# Altium footprint library CONN_TBLOCK_5P08.PcbLib: 72 footprints (part 5 of 5)
Each footprint in its own frame and in the unit in brackets; x right, y up, seen from the top. Pads: shape width x height; smd on the part's side, far side on the other; paste and mask are expansions set on the pad; w line width, h text height; cw(c..) or ccw(c..) is an arc to the next point about the centre after c.
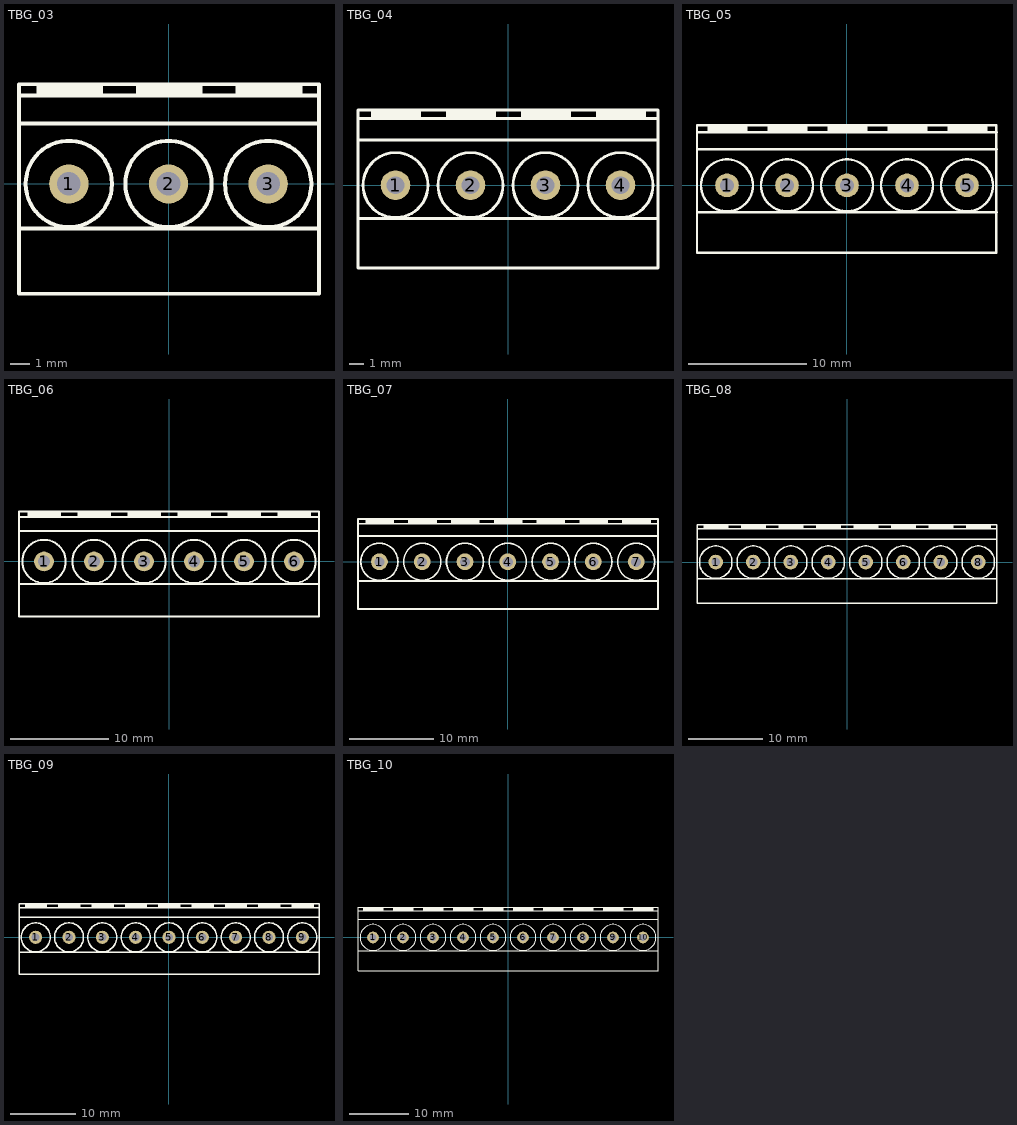
[diagram p4: the footprints below, top view; thin cyan lines are the x and y axes]

## TBG_03 [mm] "Terminal Block Green"
pads (3):
  round 2 / inner round 2 / far side oval 2.4x3 hole 1.2: 1(-5.08,0) 2(0,0) 3(5.08,0)
Top Overlay:
  circle w0.2: c-5.08,0 r2.2
  circle w0.2: c0,0 r2.2
  circle w0.2: c5.08,0 r2.2
  rectangle: 3.42,4.5 6.82,5.08
  rectangle: -1.66,4.5 1.74,5.08
  rectangle: -6.74,4.5 -3.34,5.08
  lines w0.2: -7.62,-2.27 7.6,-2.27 ; -7.62,3.07 7.6,3.07 ; -7.62,4.5 7.6,4.5 ; -7.62,-5.6 -7.62,5.08 7.671,5.08 7.671,-5.6 -7.62,-5.6
3D body "User Library-klema-5mm-3pin.step": height 14.1, standoff -3.9, extent -7.5,-5.5 7.5,5

## TBG_04 [mm] "Terminal Block Green"
pads (4):
  round 2 / inner round 2 / far side oval 2.4x3 hole 1.2: 1(-7.62,0) 2(-2.54,0) 3(2.54,0) 4(7.62,0)
Top Overlay:
  circle w0.2: c-7.62,0 r2.2
  circle w0.2: c-2.54,0 r2.2
  circle w0.2: c2.54,0 r2.2
  circle w0.2: c7.62,0 r2.2
  rectangle: -9.28,4.5 -5.88,5.08
  rectangle: -4.2,4.5 -0.8,5.08
  rectangle: 0.88,4.5 4.28,5.08
  rectangle: 5.96,4.5 9.36,5.08
  lines w0.2: -10.16,-2.27 10.16,-2.27 ; -10.16,3.07 10.16,3.07 ; -10.16,4.5 10.16,4.5 ; -10.16,-5.6 -10.16,5.08 10.16,5.08 10.16,-5.6 -10.16,-5.6
3D body "User Library-klema-5mm-2pin.step": height 14, standoff -4, extent -10.08,-5.5 -0.08,5
3D body "User Library-klema-5mm-2pin.step": height 14, standoff -4, extent 0.08,-5.5 10.08,5

## TBG_05 [mm] "Terminal Block Green"
pads (5):
  round 2 / inner round 2 / far side oval 2.4x3 hole 1.2: 1(-10.16,0) 2(-5.08,0) 3(0,0) 4(5.08,0) 5(10.16,0)
Top Overlay:
  circle w0.2: c-10.16,0 r2.2
  circle w0.2: c-5.08,0 r2.2
  circle w0.2: c0,0 r2.2
  circle w0.2: c5.08,0 r2.2
  circle w0.2: c10.16,0 r2.2
  rectangle: -11.82,4.5 -8.42,5.08
  rectangle: -6.74,4.5 -3.34,5.08
  rectangle: -1.66,4.5 1.74,5.08
  rectangle: 3.42,4.5 6.82,5.08
  rectangle: 8.5,4.5 11.9,5.08
  lines w0.2: -12.7,-2.27 12.7,-2.27 ; -12.7,3.07 12.7,3.07 ; -12.7,4.5 12.7,4.5 ; -12.7,-5.7 -12.7,5.08 12.649,5.08 12.649,-5.7 -12.7,-5.7
3D body "User Library-klema-5mm-3pin.step": height 14.1, standoff -3.9, extent -12.58,-5.5 2.42,5
3D body "User Library-klema-5mm-2pin.step": height 14, standoff -4, extent 2.62,-5.5 12.62,5

## TBG_06 [mm] "Terminal Block Green"
pads (6):
  round 2 / inner round 2 / far side oval 2.4x3 hole 1.2: 1(-12.7,0) 2(-7.62,0) 3(-2.54,0) 4(2.54,0) 5(7.62,0) 6(12.7,0)
Top Overlay:
  circle w0.2: c-12.7,0 r2.2
  circle w0.2: c-7.62,0 r2.2
  circle w0.2: c-2.54,0 r2.2
  circle w0.2: c2.54,0 r2.2
  circle w0.2: c7.62,0 r2.2
  circle w0.2: c12.7,0 r2.2
  rectangle: -14.36,4.5 -10.96,5.08
  rectangle: -9.28,4.5 -5.88,5.08
  rectangle: -4.2,4.5 -0.8,5.08
  rectangle: 0.88,4.5 4.28,5.08
  rectangle: 5.96,4.5 9.36,5.08
  rectangle: 11.04,4.5 14.44,5.08
  lines w0.2: -15.24,-2.27 15.2,-2.27 ; -15.24,3.07 15.2,3.07 ; -15.24,4.5 15.2,4.5 ; -15.24,-5.6 15.24,-5.6 15.24,5.08 -15.24,5.08 -15.24,-5.6
3D body "User Library-klema-5mm-3pin.step": height 14.1, standoff -3.9, extent 0.12,-5.5 15.12,5
3D body "User Library-klema-5mm-3pin.step": height 14.1, standoff -3.9, extent -15.12,-5.5 -0.12,5

## TBG_07 [mm] "Terminal Block Green"
pads (7):
  round 2 / inner round 2 / far side oval 2.4x3 hole 1.2: 1(-15.24,0) 2(-10.16,0) 3(-5.08,0) 4(0,0) 5(5.08,0) 6(10.16,0) 7(15.24,0)
Top Overlay:
  circle w0.2: c15.24,0 r2.2
  circle w0.2: c10.16,0 r2.2
  circle w0.2: c5.08,0 r2.2
  circle w0.2: c0,0 r2.2
  circle w0.2: c-5.08,0 r2.2
  circle w0.2: c-10.16,0 r2.2
  circle w0.2: c-15.24,0 r2.2
  rectangle: 13.58,4.5 16.98,5.08
  rectangle: 8.5,4.5 11.9,5.08
  rectangle: 3.42,4.5 6.82,5.08
  rectangle: -1.66,4.5 1.74,5.08
  rectangle: -6.74,4.5 -3.34,5.08
  rectangle: -11.82,4.5 -8.42,5.08
  rectangle: -16.9,4.5 -13.5,5.08
  lines w0.2: -17.78,-2.27 17.8,-2.27 ; -17.78,3.07 17.8,3.07 ; -17.78,4.5 17.8,4.5 ; -17.78,-5.6 17.831,-5.6 17.831,5.08 -17.78,5.08 -17.78,-5.6
3D body "User Library-klema-5mm-3pin.step": height 14.1, standoff -3.9, extent 2.66,-5.5 17.66,5
3D body "User Library-klema-5mm-2pin.step": height 14, standoff -4, extent -17.7,-5.5 -7.7,5
3D body "User Library-klema-5mm-2pin.step": height 14, standoff -4, extent -7.54,-5.5 2.46,5

## TBG_08 [mm] "Terminal Block Green"
pads (8):
  round 2 / inner round 2 / far side oval 2.4x3 hole 1.2: 1(-17.78,0) 2(-12.7,0) 3(-7.62,0) 4(-2.54,0) 5(2.54,0) 6(7.62,0) 7(12.7,0) 8(17.78,0)
Top Overlay:
  circle w0.2: c-17.78,0 r2.2
  circle w0.2: c-12.7,0 r2.2
  circle w0.2: c-7.62,0 r2.2
  circle w0.2: c-2.54,0 r2.2
  circle w0.2: c2.54,0 r2.2
  circle w0.2: c7.62,0 r2.2
  circle w0.2: c12.7,0 r2.2
  circle w0.2: c17.78,0 r2.2
  rectangle: -19.44,4.5 -16.04,5.08
  rectangle: -14.36,4.5 -10.96,5.08
  rectangle: -9.28,4.5 -5.88,5.08
  rectangle: -4.2,4.5 -0.8,5.08
  rectangle: 0.88,4.5 4.28,5.08
  rectangle: 5.96,4.5 9.36,5.08
  rectangle: 11.04,4.5 14.44,5.08
  rectangle: 16.12,4.5 19.52,5.08
  lines w0.2: -20.32,-2.27 20.32,-2.27 ; -20.32,3.07 20.32,3.07 ; -20.32,4.5 20.32,4.5 ; -20.32,-5.6 20.32,-5.6 20.32,5.08 -20.32,5.08 -20.32,-5.6
3D body "User Library-klema-5mm-3pin.step": height 14.1, standoff -3.9, extent 5.2,-5.5 20.2,5
3D body "User Library-klema-5mm-3pin.step": height 14.1, standoff -3.9, extent -10.04,-5.5 4.96,5
3D body "User Library-klema-5mm-2pin.step": height 14, standoff -4, extent -20.24,-5.5 -10.24,5

## TBG_09 [mm] "Terminal Block Green"
pads (9):
  round 2 / inner round 2 / far side oval 2.4x3 hole 1.2: 1(-20.32,0) 2(-15.24,0) 3(-10.16,0) 4(-5.08,0) 5(0,0) 6(5.08,0) 7(10.16,0) 8(15.24,0) 9(20.32,0)
Top Overlay:
  circle w0.2: c20.32,0 r2.2
  circle w0.2: c15.24,0 r2.2
  circle w0.2: c10.16,0 r2.2
  circle w0.2: c5.08,0 r2.2
  circle w0.2: c0,0 r2.2
  circle w0.2: c-5.08,0 r2.2
  circle w0.2: c-10.16,0 r2.2
  circle w0.2: c-15.24,0 r2.2
  circle w0.2: c-20.32,0 r2.2
  rectangle: 18.66,4.5 22.06,5.08
  rectangle: 13.58,4.5 16.98,5.08
  rectangle: 8.5,4.5 11.9,5.08
  rectangle: 3.42,4.5 6.82,5.08
  rectangle: -1.66,4.5 1.74,5.08
  rectangle: -6.74,4.5 -3.34,5.08
  rectangle: -11.82,4.5 -8.42,5.08
  rectangle: -16.9,4.5 -13.5,5.08
  rectangle: -21.98,4.5 -18.58,5.08
  lines w0.2: -22.86,-2.27 22.86,-2.27 ; -22.86,3.07 22.86,3.07 ; -22.86,4.5 22.86,4.5 ; -22.86,-5.6 -22.86,5.08 22.86,5.08 22.86,-5.6 -22.86,-5.6
3D body "User Library-klema-5mm-3pin.step": height 14.1, standoff -3.9, extent -22.74,-5.5 -7.74,5
3D body "User Library-klema-5mm-3pin.step": height 14.1, standoff -3.9, extent -7.5,-5.5 7.5,5
3D body "User Library-klema-5mm-3pin.step": height 14.1, standoff -3.9, extent 7.74,-5.5 22.74,5

## TBG_10 [mm] "Terminal Block Green"
pads (10):
  round 2 / inner round 2 / far side oval 2.4x3 hole 1.2: 1(-22.86,0) 2(-17.78,0) 3(-12.7,0) 4(-7.62,0) 5(-2.54,0) 6(2.54,0) 7(7.62,0) 8(12.7,0) 9(17.78,0) 10(22.86,0)
Top Overlay:
  circle w0.2: c-22.86,0 r2.2
  circle w0.2: c-17.78,0 r2.2
  circle w0.2: c-12.7,0 r2.2
  circle w0.2: c-7.62,0 r2.2
  circle w0.2: c-2.54,0 r2.2
  circle w0.2: c2.54,0 r2.2
  circle w0.2: c7.62,0 r2.2
  circle w0.2: c12.7,0 r2.2
  circle w0.2: c17.78,0 r2.2
  circle w0.2: c22.86,0 r2.2
  rectangle: -24.52,4.5 -21.12,5.08
  rectangle: -19.44,4.5 -16.04,5.08
  rectangle: -14.36,4.5 -10.96,5.08
  rectangle: -9.28,4.5 -5.88,5.08
  rectangle: -4.2,4.5 -0.8,5.08
  rectangle: 0.88,4.5 4.28,5.08
  rectangle: 5.96,4.5 9.36,5.08
  rectangle: 11.04,4.5 14.44,5.08
  rectangle: 16.12,4.5 19.52,5.08
  rectangle: 21.2,4.5 24.6,5.08
  lines w0.2: -25.4,-2.27 25.4,-2.27 ; -25.4,3.07 25.4,3.07 ; -25.4,4.5 25.4,4.5 ; -25.4,-5.6 -25.4,5.08 25.4,5.08 25.4,-5.6 -25.4,-5.6
3D body "User Library-klema-5mm-3pin.step": height 14.1, standoff -3.9, extent 10.28,-5.5 25.28,5
3D body "User Library-klema-5mm-3pin.step": height 14.1, standoff -3.9, extent -25.28,-5.5 -10.28,5
3D body "User Library-klema-5mm-2pin.step": height 14, standoff -4, extent -10.08,-5.5 -0.08,5
3D body "User Library-klema-5mm-2pin.step": height 14, standoff -4, extent 0.08,-5.5 10.08,5